# Altium footprint library STM32-PILL-PCB.PcbLib: 22 footprints (part 2 of 2)
Each footprint in its own frame and in the unit in brackets; x right, y up, seen from the top. Pads: shape width x height; smd on the part's side, far side on the other; paste and mask are expansions set on the pad; w line width, h text height; cw(c..) or ccw(c..) is an arc to the next point about the centre after c.
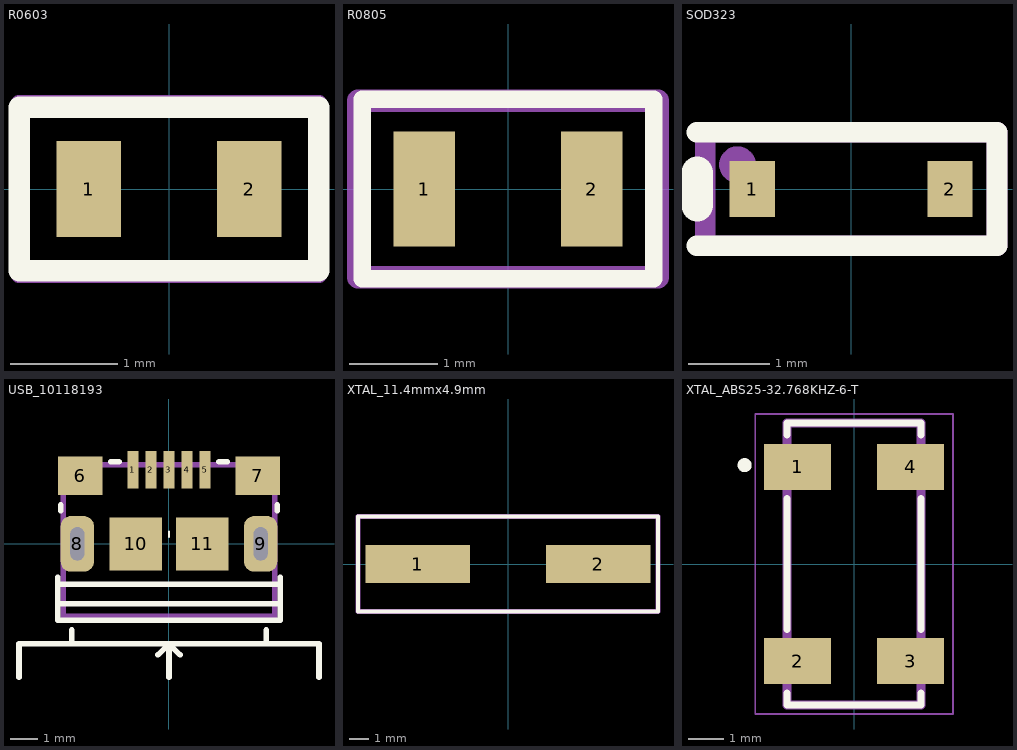
[diagram p1: the footprints below, top view; thin cyan lines are the x and y axes]

## R0603 [mm]
pads (2):
  rect 0.6x0.9 smd: 1(-0.75,0) 2(0.75,0)
Top Overlay:
  lines w0.2: -1.397,-0.762 -1.397,0.762 1.397,0.762 1.397,-0.762 -1.397,-0.762
Mechanical 29:
  lines w0.15: -1.4,-0.8 -1.4,0.8 1.4,0.8 1.4,-0.8 -1.4,-0.8
  text ".Designator" at -0.5,-0.3 h0.6
3D body "R0603.step": height 0.8, standoff 0, extent -0.8,-0.42 0.8,0.42

## R0805 [mm]
pads (2):
  rect 0.7x1.3 smd: 1(-0.95,0) 2(0.95,0)
Top Overlay:
  lines w0.2: -1.651,-1.016 -1.651,1.016 1.651,1.016 1.651,-1.016 -1.651,-1.016
Mechanical 29:
  lines w0.254: -1.7,-1 -1.7,1 1.7,1 1.7,-1 -1.7,-1
  text ".Designator" at -0.4,1.2 h0.8
3D body "R0805.step": height 0.7, standoff 0, extent -1,-0.6 1,0.6

## SOD323 [mil]
pads (2):
  rect 22x27 smd mask+3: 1(-48,0) 2(48,0)
Top Overlay:
  lines w10: -74.8,-27.56 70.87,-27.56 70.87,27.56 -74.8,27.56
  lines w15.75: -74.8,-7.87 -74.8,7.87
Mechanical 29:
  circle w10: c-55.12,11.81 r3.94
  lines w10: -70.87,-27.56 70.87,-27.56 70.87,27.56 -70.87,27.56 -70.87,-27.56
  text ".Designator" at 15.75,7.87 h15.75
3D body "SOD323.step": height 38.78, standoff -0.2, extent -49.21,-24.6 49.21,24.61

## USB_10118193 [mm] "Creator MM"
height 3.1
pads (11):
  rect 0.4x1.35 smd mask+0.05: 1(-1.3,2.675) 2(-0.65,2.675) 3(0,2.675) 4(0.65,2.675) 5(1.3,2.675)
  rect 1.6x1.4 smd: 6(-3.2,2.45) 7(3.2,2.45)
  rrect60% 1.2x2 hole 0.5 slot 1.2 at 90 deg: 8(-3.3,0) 9(3.3,0)
  rect 1.9x1.9 smd paste-10: 10(-1.2,0) 11(1.2,0)
Top Overlay:
  lines w0.08: 0,0.25 0,0.45
  lines w0.2: -5.4,-4.8 -5.4,-3.6 5.4,-3.6 5.4,-4.8 ; -4,-2.15 4,-2.15 ; -4,-1.45 4,-1.45 ; -4,-1.2 -4,-2.75 4,-2.75 4,-1.2 ; -3.9,1.2 -3.9,1.4 ; -3.5,-3.6 -3.5,-3.1 ; -2.1,2.95 -1.8,2.95 ; -0.4,-4 0,-3.6 ; 0,-4.8 0,-3.6 ; 0.4,-4 0,-3.6 ; 1.8,2.95 2.1,2.95 ; 3.5,-3.6 3.5,-3.1 ; 3.9,1.2 3.9,1.4
Mechanical 29:
  lines w0.2: -3.8,-2.6 -3.8,2.85 3.8,2.85 3.8,-2.6 -3.8,-2.6
  text ".Designator" at 0.6,-1.2 h1.52
3D body "10118193.step": height 2.85, standoff -0.75, extent -3.929,-2.76 3.928,2.9

## XTAL_11.4mmx4.9mm [mm]
pads (2):
  rect 5.5x2 smd: 1(-4.75,0) 2(4.75,0)
Top Overlay:
  lines w0.2: -7.9,-2.5 -7.9,0 -7.9,2.5 7.9,2.5 7.9,-2.5 -7.9,-2.5
Mechanical 29:
  lines w0.254: -7.9,-2.5 7.9,-2.5 7.9,2.5 -7.9,2.5 -7.9,-2.5
  text ".Designator" at -2.8,-0.4 h1.52
3D body "XTAL-HC49.STEP": height 4.31, standoff -0.04, extent -6.15,-2.35 6.15,2.35

## XTAL_ABS25-32.768KHZ-6-T [mm]
pads (4):
  rect 1.9x1.3 smd: 1(-1.6,2.75) 2(-1.6,-2.75) 3(1.6,-2.75) 4(1.6,2.75)
Top Overlay:
  circle w0.2: c-3.1,2.8 r0.1
  lines w0.2: -1.9,-3.65 -1.9,-4 1.9,-4 1.9,-3.65 ; -1.9,-1.85 -1.9,1.85 ; -1.9,3.65 -1.9,4 1.9,4 1.9,3.65 ; 1.9,-1.85 1.9,1.85
Mechanical 16:
  lines w0.05: -2.8,-4.25 2.8,-4.25 2.8,4.25 -2.8,4.25 -2.8,-4.25
Mechanical 29:
  lines w0.254: -1.9,-4 1.9,-4 1.9,4 -1.9,4 -1.9,-4
  text ".Designator" at 0.6,-1 h1.52
3D body "XTAL-ABS25.STEP": height 2.51, standoff -0.19, extent -2,-4 2,4